# Altium footprint library adafruit.PCBLIB: 630 footprints (part 37 of 40)
Each footprint in its own frame and in the unit in brackets; x right, y up, seen from the top. Pads: shape width x height; smd on the part's side, far side on the other; paste and mask are expansions set on the pad; w line width, h text height; cw(c..) or ccw(c..) is an arc to the next point about the centre after c.
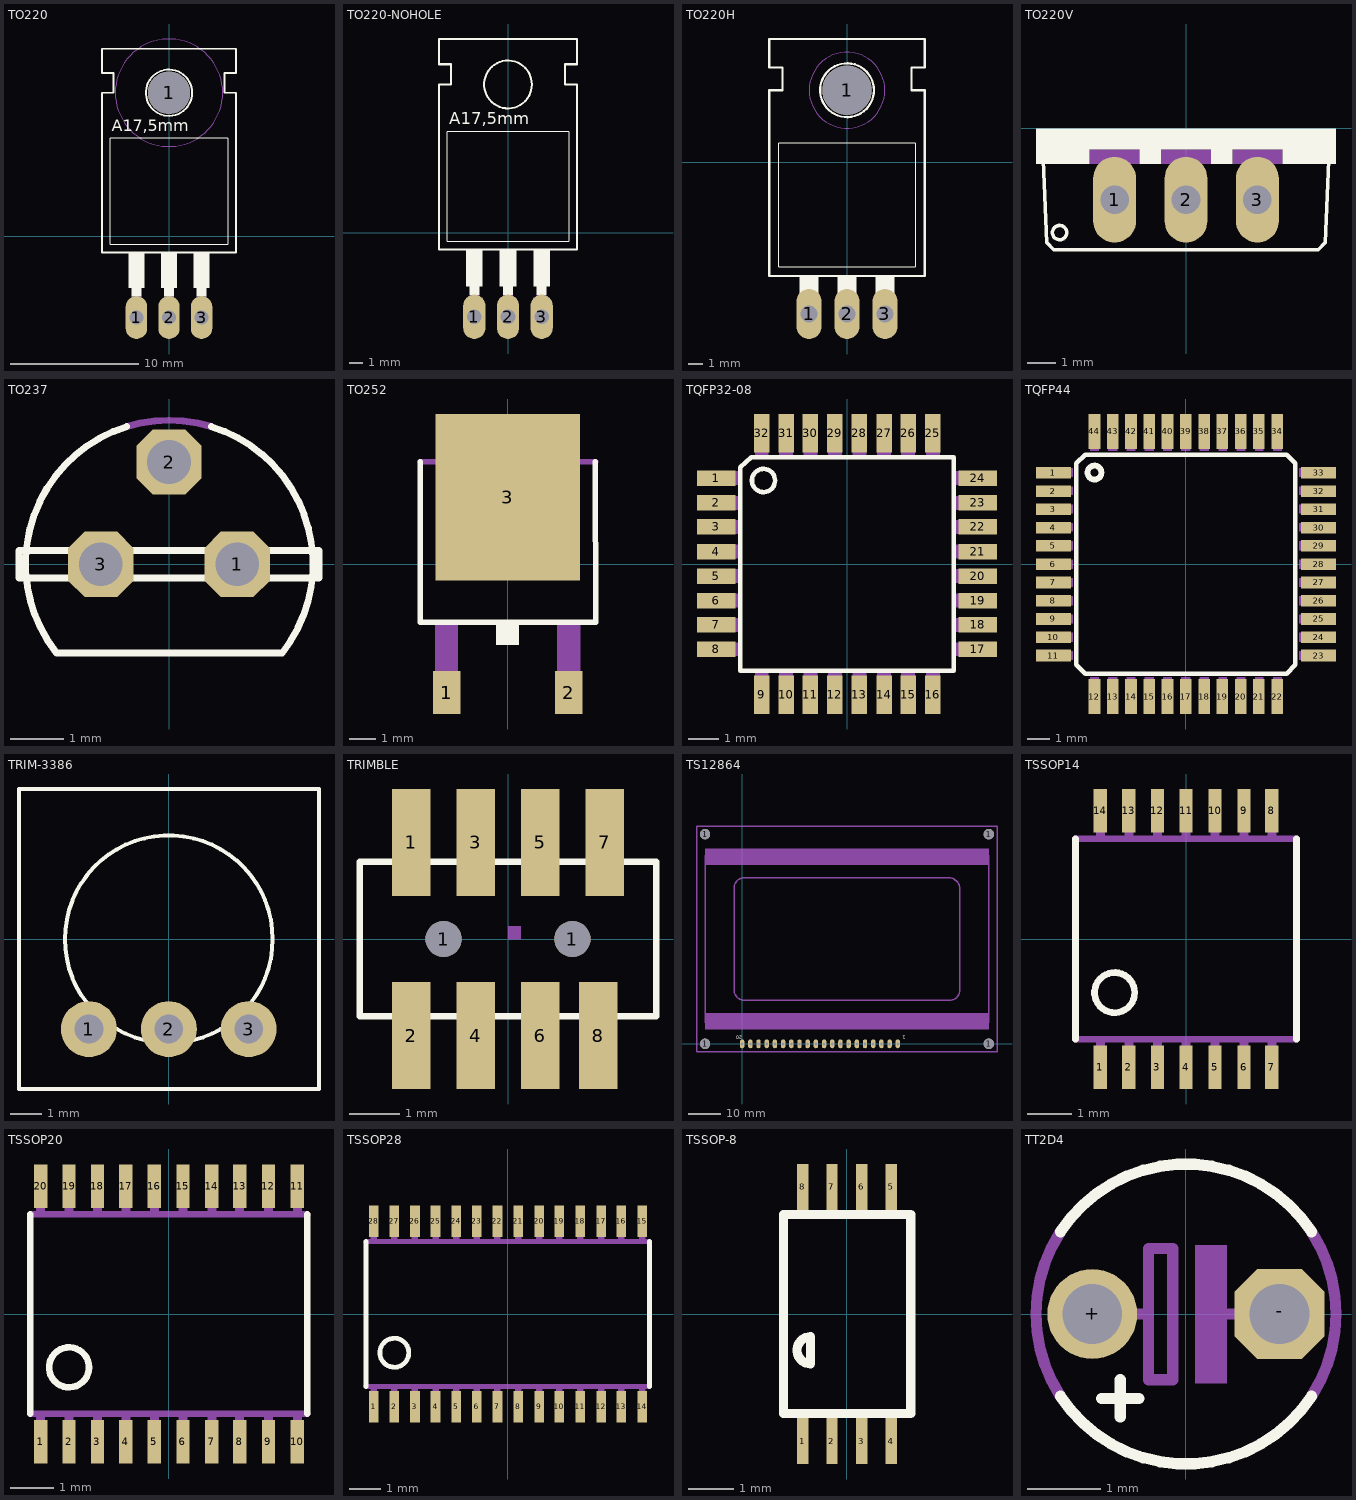
[diagram p36: the footprints below, top view; thin cyan lines are the x and y axes]

## TO220 [mil]
pads (4):
  oval 66x132 hole 44: 1(-100,-250) 2(0,-250) 3(100,-250)
  round 130 hole 130: 1(0,440)
Top Overlay:
  circle w6: c0,440 r71
  rectangle: 85,-185 115,-160
  rectangle: -15,-185 15,-160
  rectangle: -115,-185 -85,-160
  rectangle: -125,-160 -75,-50
  rectangle: -25,-160 25,-50
  rectangle: 75,-160 125,-50
  lines w2: -180,-25 180,-25 180,300 -180,300 -180,-25
  lines w6: -205,-50 205,-50 205,440 170,440 170,500 205,500 205,575 -205,575 -205,500 -170,500 -170,440 -205,440 -205,-50
  text "A17,5mm" at -175,310 h62
Mechanical 9:
  circle w0: c0,440 r165
Mechanical 10:
  circle w0: c0,440 r165
Mechanical 16:
  rectangle: -115,-260 -85,-185
  rectangle: -15,-260 15,-185
  rectangle: 85,-260 115,-185
  text "1" at -125,0 h77.5
  text "2" at -25,0 h77.5
  text "3" at 75,0 h77.5

## TO220-NOHOLE [mil]
pads (3):
  oval 66x132 hole 44: 1(-100,-250) 2(0,-250) 3(100,-250)
Top Overlay:
  circle w6: c0,440 r71
  rectangle: 85,-185 115,-160
  rectangle: -15,-185 15,-160
  rectangle: -115,-185 -85,-160
  rectangle: -125,-160 -75,-50
  rectangle: -25,-160 25,-50
  rectangle: 75,-160 125,-50
  lines w2: -180,-25 180,-25 180,300 -180,300 -180,-25
  lines w6: -205,-50 205,-50 205,440 170,440 170,500 205,500 205,575 -205,575 -205,500 -170,500 -170,440 -205,440 -205,-50
  text "A17,5mm" at -175,310 h62
Mechanical 16:
  rectangle: -115,-260 -85,-185
  rectangle: -15,-260 15,-185
  rectangle: 85,-260 115,-185
  text "1" at -125,0 h77.5
  text "2" at -25,0 h77.5
  text "3" at 75,0 h77.5

## TO220H [mil]
pads (4):
  oval 66x132 hole 44: 1(-100,-400) 2(0,-400) 3(100,-400)
  round 130 hole 130: 1(0,190)
Top Overlay:
  circle w6: c0,190 r71
  rectangle: 85,-435 115,-410
  rectangle: -15,-435 15,-410
  rectangle: -115,-435 -85,-410
  rectangle: -125,-410 -75,-300
  rectangle: -25,-410 25,-300
  rectangle: 75,-410 125,-300
  lines w2: -180,-275 180,-275 180,50 -180,50 -180,-275
  lines w6: -205,-300 205,-300 205,190 170,190 170,250 205,250 205,325 -205,325 -205,250 -170,250 -170,190 -205,190 -205,-300
Mechanical 9:
  circle w0: c0,190 r100
Mechanical 10:
  circle w0: c0,190 r100

## TO220V [mil]
pads (3):
  oval 60x120 hole 40: 1(-100,-100) 2(0,-100) 3(100,-100)
Top Overlay:
  circle w5: c-177,-146 r10
  rectangle: -210,-30 210,0
  rectangle: -210,-50 -135,-30
  rectangle: -65,-50 -35,-30
  rectangle: 35,-50 65,-30
  rectangle: 135,-50 210,-30
  lines w5: -200,-45 -195,-160 -185,-170 185,-170 195,-160 200,-45
Mechanical 16:
  rectangle: -135,-50 -65,-30
  rectangle: -35,-50 35,-30
  rectangle: 65,-50 135,-30
  text "1" at -125,-125 h77.5
  text "2" at -25,-125 h77.5
  text "3" at 75,-125 h77.5

## TO237 [mil]
pads (3):
  oct 48x48 hole 32: 1(50,0) 2(0,75) 3(-50,0)
Top Overlay:
  lines w5: -30.96,101 ccw(c0.23,0.33) -82.46,-65 83,-65 ccw(c0.06,0.16) 31,101 ; -110,-10 110,-10 110,10 -110,10 -110,-10
Mechanical 16:
  lines w5: -30.96,101 cw(c0.02,0.6) 31,101
  text "2" at -20,20 h77.5
  text "3" at -85,20 h77.5
  text "1" at 50,20 h77.5

## TO252 [mil]
pads (3):
  rect 40x63 smd: 1(-89.76,-188.98) 2(90,-188.98)
  rect 213x245 smd: 3(0,99)
Top Overlay:
  rectangle: -17,-119 17,-89
  lines w8: -129,151 -129.02,-85 130,-85 129,151
Mechanical 16:
  rectangle: -107,-203 -73,-89
  rectangle: 73,-203 107,-89
  region: 0,0 10,0 10,10 0,10
  lines w8: -129.02,151 130,151 ; -101,155 -101,183 -83,201 83,201 101,183 101,155 -101,155

## TQFP32-08 [mil]
pads (32):
  rect 50x20 smd: 1(-169,111) 2(-169,79) 3(-169,48) 4(-169,16) 5(-169,-15.75) 6(-169,-47.24) 7(-169,-78.74) 8(-169,-110.24) 17(169,-110.24) 18(169,-78.74) 19(169,-47.24) 20(169,-15.75) 21(169,16) 22(169,48) 23(169,79) 24(169,111)
  rect 20x50 smd: 9(-110.24,-169) 10(-78.74,-169) 11(-47.24,-169) 12(-15.75,-169) 13(16,-169) 14(48,-169) 15(79,-169) 16(111,-169) 25(111,169) 26(79,169) 27(48,169) 28(16,169) 29(-15.75,169) 30(-47.24,169) 31(-78.74,169) 32(-110.24,169)
Top Overlay:
  circle w6: c-108,108 r15
  lines w6: -137.99,-137.99 138,-137.99 138,138 -124.02,138 -137.99,125 -137.99,-137.99
Mechanical 16:
  rectangle: -179,102 -140,120
  rectangle: -179,70 -140,88
  rectangle: -179,39 -140,57
  rectangle: -179,7 -140,25
  rectangle: -179,-24.75 -140,-6.75
  rectangle: -179,-56.24 -140,-38.24
  rectangle: -179,-87.74 -140,-69.74
  rectangle: -179,-119.24 -140,-101.24
  rectangle: -119.24,-179 -101.24,-140
  rectangle: -87.74,-179 -69.74,-140
  rectangle: -56.24,-179 -38.24,-140
  rectangle: -24.75,-179 -6.75,-140
  rectangle: 7,-179 25,-140
  rectangle: 39,-179 57,-140
  rectangle: 70,-179 88,-140
  rectangle: 102,-179 120,-140
  rectangle: 140,-119.24 179,-101.24
  rectangle: 140,-87.74 179,-69.74
  rectangle: 140,-56.24 179,-38.24
  rectangle: 140,-24.75 179,-6.75
  rectangle: 140,7 179,25
  rectangle: 140,39 179,57
  rectangle: 140,70 179,88
  rectangle: 140,102 179,120
  rectangle: 102,140 120,179
  rectangle: 70,140 88,179
  rectangle: 39,140 57,179
  rectangle: 7,140 25,179
  rectangle: -24.75,140 -6.75,179
  rectangle: -56.24,140 -38.24,179
  rectangle: -87.74,140 -69.74,179
  rectangle: -119.24,140 -101.24,179

## TQFP44 [mil]
pads (44):
  rect 60x20 smd: 1(-228.35,158) 2(-228.35,126) 3(-228.35,95) 4(-228.35,63) 5(-228.35,32) 6(-228.35,0) 7(-228.35,-31.5) 8(-228.35,-62.99) 9(-228.35,-94.49) 10(-228.35,-125.98) 11(-228.35,-157.48) 23(229,-157.48) 24(229,-125.98) 25(229,-94.49) 26(229,-62.99) 27(229,-31.5) 28(229,0) 29(229,32) 30(229,63) 31(229,95) 32(229,126) 33(229,158)
  rect 20x60 smd: 12(-157.48,-228.35) 13(-125.98,-228.35) 14(-94.49,-228.35) 15(-62.99,-228.35) 16(-31.5,-228.35) 17(0,-228.35) 18(32,-228.35) 19(63,-228.35) 20(95,-228.35) 21(126,-228.35) 22(158,-228.35) 34(158,229) 35(126,229) 36(95,229) 37(63,229) 38(32,229) 39(0,229) 40(-31.5,229) 41(-62.99,229) 42(-94.49,229) 43(-125.98,229) 44(-157.48,229)
Top Overlay:
  circle w10: c-157.48,158 r12
  lines w8: -188.98,-173.23 -173.23,-188.98 174,-188.98 189,-173.23 189,174 174,189 -173.23,189 -188.98,174 -188.98,-173.23
Mechanical 16:
  rectangle: -240.16,150 -194.88,166
  rectangle: -240.16,119 -194.88,134
  rectangle: -240.16,87 -194.88,103
  rectangle: -240.16,56 -194.88,71
  rectangle: -240.16,24 -194.88,40
  rectangle: -240.16,-7.87 -194.88,8
  rectangle: -240.16,-39.37 -194.88,-23.62
  rectangle: -240.16,-70.87 -194.88,-55.12
  rectangle: -240.16,-102.36 -194.88,-86.61
  rectangle: -240.16,-133.86 -194.88,-118.11
  rectangle: -240.16,-165.35 -194.88,-149.61
  rectangle: -165.35,-240.16 -149.61,-194.88
  rectangle: -133.86,-240.16 -118.11,-194.88
  rectangle: -102.36,-240.16 -86.61,-194.88
  rectangle: -70.87,-240.16 -55.12,-194.88
  rectangle: -39.37,-240.16 -23.62,-194.88
  rectangle: -7.87,-240.16 8,-194.88
  rectangle: 24,-240.16 40,-194.88
  rectangle: 56,-240.16 71,-194.88
  rectangle: 87,-240.16 103,-194.88
  rectangle: 119,-240.16 134,-194.88
  rectangle: 150,-240.16 166,-194.88
  rectangle: 195,-165.35 241,-149.61
  rectangle: 195,-133.86 241,-118.11
  rectangle: 195,-102.36 241,-86.61
  rectangle: 195,-70.87 241,-55.12
  rectangle: 195,-39.37 241,-23.62
  rectangle: 195,-7.87 241,8
  rectangle: 195,24 241,40
  rectangle: 195,56 241,71
  rectangle: 195,87 241,103
  rectangle: 195,119 241,134
  rectangle: 195,150 241,166
  rectangle: 150,195 166,241
  rectangle: 119,195 134,241
  rectangle: 87,195 103,241
  rectangle: 56,195 71,241
  rectangle: 24,195 40,241
  rectangle: -7.87,195 8,241
  rectangle: -39.37,195 -23.62,241
  rectangle: -70.87,195 -55.12,241
  rectangle: -102.36,195 -86.61,241
  rectangle: -133.86,195 -118.11,241
  rectangle: -165.35,195 -149.61,241

## TRIM-3386 [mil]
pads (3):
  round 70 hole 36: 1(-100,-112.5) 2(0,-112.5) 3(100,-112.5)
Top Overlay:
  circle w5: c0,0 r130
  lines w5: -187.5,-187.5 188,-187.5 188,188 -187.5,188 -187.5,-187.5

## TRIMBLE [mil]
pads (10):
  rect 30x83 smd: 1(-75,75) 2(-75,-75) 3(-25,75) 4(-25,-75) 5(25,75) 6(25,-75) 7(75,75) 8(70,-75)
  round 28 hole 28: 1(-50,0) 1(50,0)
Top Overlay:
  lines w5: -115,-60 -115,60 115,60 115,-60 -115,-60
Mechanical 10:
  region: 0,0 10,0 10,10 0,10

## TS12864 [mil]
pads (24):
  round 126 hole 126: 1(-452.76,0) 1(-452.76,2560) 1(3012,0) 1(3012,2560)
  oval 54x108 hole 36: 1(1900,0) 2(1800,0) 3(1700,0) 4(1600,0) 5(1500,0) 6(1400,0) 7(1300,0) 8(1200,0) 9(1100,0) 10(1000,0) 11(900,0) 12(800,0) 13(700,0) 14(600,0) 15(500,0) 16(400,0) 17(300,0) 18(200,0) 19(100,0) 20(0,0)
Top Overlay:
  text "20" at 0,100 h42.5
  text "1" at 2000,100 h42.5
Mechanical 16:
  lines w16: -295.28,355 2855,355 ; -295.28,2205 2855,2205 ; -551.18,-98.43 3111,-98.43 3111,2658 -551.18,2658 -551.18,-98.43 ; -452.76,256 3012,256 3012,2304 -452.76,2304 -452.76,256 ; -98.43,658 ccw(c27.79,658.21) 28,532 2532,532 ccw(c2532,658) 2658,658 2658,1889 ccw(c2519,1889) 2519,2028 28,2028 ccw(c27.79,1901.79) -98.43,1902 -98.43,658
Mechanical 27:
  rectangle: -452.76,2186 3012,2382
  rectangle: -452.76,178 3012,375

## TSSOP14 [mil]
pads (14):
  rect 12x39 smd: 1(-76.77,-114.87) 2(-51.18,-114.87) 3(-25.59,-114.87) 4(0,-114.87) 5(26,-114.87) 6(52,-114.87) 7(77,-114.87) 8(77,115) 9(52,115) 10(26,115) 11(0,115) 12(-25.59,115) 13(-51.18,115) 14(-76.77,115)
Top Overlay:
  circle w6: c-64,-48 r18
  lines w6: -99,-89.87 -99,90 ; 99,-89.87 99,90
Mechanical 16:
  rectangle: -80.77,-122.87 -72.77,-89.87
  rectangle: -55.18,-122.87 -47.18,-89.87
  rectangle: -29.59,-122.87 -21.59,-89.87
  rectangle: -4,-122.87 4,-89.87
  rectangle: 22,-122.87 30,-89.87
  rectangle: 48,-122.87 56,-89.87
  rectangle: 73,-122.87 81,-89.87
  rectangle: 73,90 81,123
  rectangle: 48,90 56,123
  rectangle: 22,90 30,123
  rectangle: -4,90 4,123
  rectangle: -29.59,90 -21.59,123
  rectangle: -55.18,90 -47.18,123
  rectangle: -80.77,90 -72.77,123
  lines w6: -99,-89.87 99,-89.87 ; -99,90 99,90

## TSSOP20 [mil]
pads (20):
  rect 12x39 smd: 1(-115.16,-114.87) 2(-89.57,-114.87) 3(-63.98,-114.87) 4(-38.39,-114.87) 5(-12.8,-114.87) 6(13,-114.87) 7(39,-114.87) 8(64,-114.87) 9(90,-114.87) 10(116,-114.87) 11(116,115) 12(90,115) 13(64,115) 14(39,115) 15(13,115) 16(-12.8,115) 17(-38.39,115) 18(-63.98,115) 19(-89.57,115) 20(-115.16,115)
Top Overlay:
  circle w6: c-89.59,-48 r18
  lines w6: -124.59,-89.87 -124.59,90 ; 125,-89.87 125,90
Mechanical 16:
  rectangle: -119.16,-122.87 -111.16,-89.87
  rectangle: -93.57,-122.87 -85.57,-89.87
  rectangle: -67.98,-122.87 -59.98,-89.87
  rectangle: -42.39,-122.87 -34.39,-89.87
  rectangle: -16.8,-122.87 -8.8,-89.87
  rectangle: 9,-122.87 17,-89.87
  rectangle: 35,-122.87 43,-89.87
  rectangle: 60,-122.87 68,-89.87
  rectangle: 60,90 68,123
  rectangle: 35,90 43,123
  rectangle: 9,90 17,123
  rectangle: -16.8,90 -8.8,123
  rectangle: -42.39,90 -34.39,123
  rectangle: -67.98,90 -59.98,123
  rectangle: -93.57,90 -85.57,123
  rectangle: -119.16,90 -111.16,123
  rectangle: 86,-122.87 94,-89.87
  rectangle: 112,-122.87 120,-89.87
  rectangle: 86,90 94,123
  rectangle: 112,90 120,123
  lines w6: -124.59,-89.87 125,-89.87 ; -124.59,90 125,90

## TSSOP28 [mil]
pads (28):
  rect 12x39 smd: 1(-166.34,-114.87) 2(-140.75,-114.87) 3(-115.16,-114.87) 4(-89.57,-114.87) 5(-63.98,-114.87) 6(-38.39,-114.87) 7(-12.8,-114.87) 8(13,-114.87) 9(39,-114.87) 10(64,-114.87) 11(90,-114.87) 12(116,-114.87) 13(141,-114.87) 14(167,-114.87) 15(167,115) 16(141,115) 17(116,115) 18(90,115) 19(64,115) 20(39,115) 21(13,115) 22(-12.8,115) 23(-38.39,115) 24(-63.98,115) 25(-89.57,115) 26(-115.16,115) 27(-140.75,115) 28(-166.34,115)
Top Overlay:
  circle w6: c-140.77,-48 r18
  lines w6: -175.77,-89.87 -175.77,90 ; 176,-89.87 176,90
Mechanical 16:
  rectangle: -170.34,-122.87 -162.34,-89.87
  rectangle: -144.75,-122.87 -136.75,-89.87
  rectangle: -119.16,-122.87 -111.16,-89.87
  rectangle: -93.57,-122.87 -85.57,-89.87
  rectangle: -67.98,-122.87 -59.98,-89.87
  rectangle: -42.39,-122.87 -34.39,-89.87
  rectangle: -16.8,-122.87 -8.8,-89.87
  rectangle: 9,-122.87 17,-89.87
  rectangle: 9,90 17,123
  rectangle: -16.8,90 -8.8,123
  rectangle: -42.39,90 -34.39,123
  rectangle: -67.98,90 -59.98,123
  rectangle: -93.57,90 -85.57,123
  rectangle: -119.16,90 -111.16,123
  rectangle: -144.75,90 -136.75,123
  rectangle: -170.34,90 -162.34,123
  rectangle: 35,-122.87 43,-89.87
  rectangle: 60,-122.87 68,-89.87
  rectangle: 35,90 43,123
  rectangle: 60,90 68,123
  rectangle: 86,-122.87 94,-89.87
  rectangle: 112,-122.87 120,-89.87
  rectangle: 137,-122.87 145,-89.87
  rectangle: 163,-122.87 171,-89.87
  rectangle: 163,90 171,123
  rectangle: 137,90 145,123
  rectangle: 112,90 120,123
  rectangle: 86,90 94,123
  lines w6: -175.77,-89.87 176,-89.87 ; -175.77,90 176,90

## TSSOP-8 [mil]
pads (8):
  rect 10x40 smd: 1(-38.39,-110.75) 2(-12.8,-110.75) 3(13,-110.75) 4(39,-110.75) 5(39,111) 6(13,111) 7(-12.8,111) 8(-38.39,111)
Top Overlay:
  lines w5: -43.31,87 -39.37,87
  lines w8: -55.12,-86.61 56,-86.61 56,87 -39.37,87 -55.12,87 -55.12,-86.61 ; -31.5,-43.31 cw(c-31.5,-31.5) -31.5,-19.68 -31.5,-43.31

## TT2D4 [mil]
pads (2):
  round 48 hole 32: +(-50,0)
  oct 48x48 hole 32: -(50,0)
Top Overlay:
  lines w6: -66.87,-43.91 ccw(c0.07,0.04) 67,-43.91 ; -66.87,44 cw(c0.07,0.05) 67,44 ; -45,-45 -25,-45 ; -35,-55 -35,-35
Mechanical 16:
  rectangle: 5,-37 22,37
  lines w6: -66.87,-43.91 cw(c0.07,0.05) -66.87,44 ; -40,0 -20,0 ; 20,0 40,0 ; 67,-43.91 ccw(c0.06,0.05) 67,44 ; -20,0 -20,-35 -7,-35 -7,35 -20,35 -20,0